# Altium schematic symbol library Schlib1.SchLib: 1 symbol
Pins are listed as number, name and electrical type; pins without a type are passive.

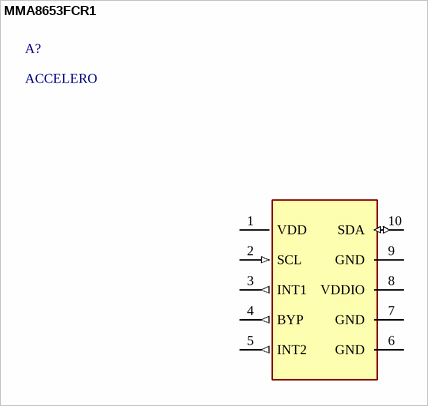
[diagram p0: symbol MMA8653FCR1]

## MMA8653FCR1
designator A?, comment ACCELERO
Accéléromètres 3-axis 2g/4g/8g 10 bit; Manufacturer: NXP / Freescale; Manufacturer Part Member: MMA8653FCR1; Published: 15/02/2017; Publisher: François Lefevre; Supplier: Mouser; Supplier Part Number: 841-MMA8653FCR1
footprint SON40P200X100-10M (SON, 10-Leads, Body 2,00x2,00mm, Pitch 0,40mm, IPC Low Density)
pins: 1 VDD (power) "Power supply", 2 SCL (in) "I2C Serial Clock", 3 INT1 (out) "Interrupt 1 output", 4 BYP (out) "Internal regulator output capacitor connection", 5 INT2 (out) "Interrupt 2 output", 6 GND (power) "Ground", 7 GND (power) "Ground", 8 VDDIO (power) "Digital interface power supply", 9 GND (power) "Ground", 10 SDA (io) "I2C Serial Data"